# EAGLE library part 6BASIC_HEADER (library HuskyRobotics2017-18)
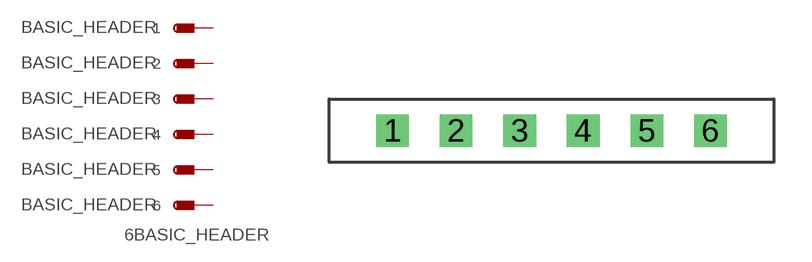
[diagram p6: symbol with the pads of 6SIP_HEADER; footprint 6SIP_HEADER]

Designator prefix BASIC_HEADER

## 6BASIC_HEADER  [6SIP_HEADER]
1  1
2  2
3  3
4  4
5  5
6  6

## Footprint 6SIP_HEADER (pad centres in mm)
drill 0.795 square: 1 -6.35,0; 2 -3.81,0; 3 -1.27,0; 4 1.27,0; 5 3.81,0; 6 6.35,0